# Altium footprint library Bosch FootPrints.PcbLib: 2 footprints
Each footprint in its own frame and in the unit in brackets; x right, y up, seen from the top. Pads: shape width x height; smd on the part's side, far side on the other; paste and mask are expansions set on the pad; w line width, h text height; cw(c..) or ccw(c..) is an arc to the next point about the centre after c.
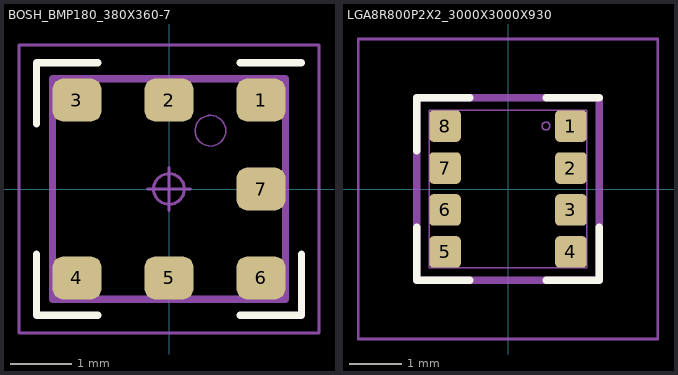
[diagram p0: the footprints below, top view; thin cyan lines are the x and y axes]

## BOSH_BMP180_380X360-7 [mm]
height 0.93
pads (7):
  rrect51% 0.8x0.7 smd: 1(1.5,1.45) 2(0,1.45) 3(-1.5,1.45) 4(-1.5,-1.45) 5(0,-1.45) 6(1.5,-1.45) 7(1.5,0)
Top Overlay:
  lines w0.12: -2.16,-1.06 -2.16,-2.06 -1.16,-2.06 ; -2.16,1.06 -2.16,2.06 -1.16,2.06 ; 1.16,-2.06 2.16,-2.06 2.16,-1.06 ; 1.16,2.06 2.16,2.06
Mechanical 11:
  lines w0.12: -1.9,1.75 -1.875,1.775 ; 1.875,-1.775 1.9,-1.75 ; -1.9,-1.8 1.9,-1.8 1.9,1.8 -1.9,1.8 -1.9,-1.8
Mechanical 12:
  circle w0.025: c0.675,0.95 r0.25
  lines w0.025: -1.9,-1.8 1.9,-1.8 1.9,1.8 -1.9,1.8 -1.9,-1.8 ; -1.8,-1.7 -1.2,-1.7 -1.2,-1.2 -1.8,-1.2 -1.8,-1.7 ; -1.8,1.2 -1.8,1.7 -1.2,1.7 -1.2,1.2 -1.8,1.2 ; -0.3,-1.7 0.3,-1.7 0.3,-1.2 -0.3,-1.2 -0.3,-1.7 ; -0.3,1.2 -0.3,1.7 0.3,1.7 0.3,1.2 -0.3,1.2 ; 1.2,-1.7 1.2,-1.2 1.8,-1.2 1.8,-1.7 1.2,-1.7 ; 1.2,1.2 1.8,1.2 1.8,1.7 1.2,1.7 1.2,1.2 ; 1.25,-0.25 1.75,-0.25 1.75,0.25 1.25,0.25 1.25,-0.25
Mechanical 15:
  circle w0.05: c0,0 r0.25
  lines w0.05: -0.35,0 0.35,0 ; 0,-0.35 0,0.35 ; -2.445,-2.345 2.445,-2.345 2.445,2.345 -2.445,2.345 -2.445,-2.345
Mechanical 16:
  text ".Designator" at 0,0 h1.2
3D body "User Library-BMP180_F.STEP": height 0.98, standoff 0, extent -1.9,-1.8 1.9,1.8

## LGA8R800P2X2_3000X3000X930 [mm] "IPC-7351C"
pads (8):
  rrect25% 0.6x0.6 smd: 1(1.2,1.2) 3(1.2,-0.4) 4(1.2,-1.2) 5(-1.2,-1.2) 6(-1.2,-0.4) 7(-1.2,0.4) 8(-1.2,1.2)
  rrect25% 0.6x0.6 smd mask+0.102: 2(1.2,0.4)
Top Overlay:
  lines w0.15: -1.737,-0.737 -1.737,-1.737 -0.737,-1.737 ; -1.737,0.737 -1.737,1.737 -0.737,1.737 ; 0.737,-1.737 1.737,-1.737 1.737,-0.737 ; 0.737,1.737 1.737,1.737
Mechanical 11:
  lines w0.15: -1.737,-1.737 -1.737,1.737 1.737,1.737 1.737,-1.737 -1.737,-1.737
Mechanical 12:
  circle w0.025: c0.725,1.2 r0.075
  lines w0.025: -1.5,-1.5 -1.5,1.5 1.5,1.5 1.5,-1.5 -1.5,-1.5 ; -1.4,-1.4 -1,-1.4 -1,-1 -1.4,-1 -1.4,-1.4 ; -1.4,-0.6 -1.4,-0.2 -1,-0.2 -1,-0.6 -1.4,-0.6 ; -1.4,0.2 -1.4,0.6 -1,0.6 -1,0.2 -1.4,0.2 ; -1.4,1 -1,1 -1,1.4 -1.4,1.4 -1.4,1 ; 1,-1.4 1,-1 1.4,-1 1.4,-1.4 1,-1.4 ; 1,-0.6 1.4,-0.6 1.4,-0.2 1,-0.2 1,-0.6 ; 1,0.2 1.4,0.2 1.4,0.6 1,0.6 1,0.2 ; 1,1 1,1.4 1.4,1.4 1.4,1 1,1
Mechanical 15:
  lines w0.05: -2.855,-2.858 2.855,-2.858 2.855,2.858 -2.855,2.858 -2.855,-2.858
Mechanical 16:
  text "Designator" at 0,0 h1.2
3D body "pp.step": height 0.95, standoff 0, extent -1.498,-1.501 1.502,1.499